# Altium footprint library GOSTInterface.PcbLib: 1 footprints
Each footprint in its own frame and in the unit in brackets; x right, y up, seen from the top. Pads: shape width x height; smd on the part's side, far side on the other; paste and mask are expansions set on the pad; w line width, h text height; cw(c..) or ccw(c..) is an arc to the next point about the centre after c.
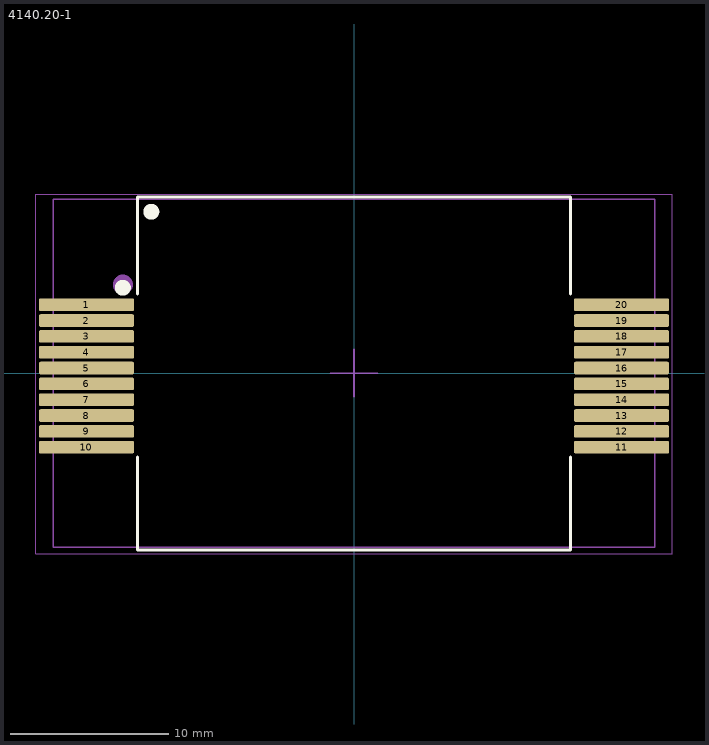
[diagram p0: the footprint, top view; thin cyan lines are the x and y axes]

## 4140.20-1 [mm] "20-???????? ??????????????????? ??????"
height 1.6
pads (20):
  rrect25% 6x0.8 smd paste-0.025 mask+0.1: 1(-16.9,4.325) 2(-16.9,3.325) 3(-16.9,2.325) 4(-16.9,1.325) 5(-16.9,0.325) 6(-16.9,-0.675) 7(-16.9,-1.675) 8(-16.9,-2.675) 9(-16.9,-3.675) 10(-16.9,-4.675) 11(16.9,-4.675) 12(16.9,-3.675) 13(16.9,-2.675) 14(16.9,-1.675) 15(16.9,-0.675) 16(16.9,0.325) 17(16.9,1.325) 18(16.9,2.325) 19(16.9,3.325) 20(16.9,4.325)
Top Overlay:
  circle w0.6: c-14.6,5.4 r0.2
  circle w0.6: c-12.8,10.2 r0.2
  lines w0.2: -13.675,-5.3 -13.675,-11.175 7.55,-11.175 13.675,-11.175 13.675,-5.3 ; -13.675,5 -13.675,11.125 -7.55,11.125 13.675,11.125 13.675,5
Mechanical 6:
  text ".Comment" at -1.251,2.736 h1.2
Mechanical 7:
  circle w1: c-14.6,5.6 r0.127
  lines w0.1: -19,-11 -19,4.9 -19,11 19,11 19,-11 -19,-11
Mechanical 9:
  text ".Designator" at -1.812,3.717 h1.5
Mechanical 15:
  lines w0.05: -20.1,-11.4 -20.1,11.3 20.1,11.3 20.1,-11.4 -20.1,-11.4
  lines w0.1: -1.5,0 1.5,0 ; 0,-1.5 0,1.5
3D body "4140.20-1.stp": height 7.32, standoff 0, extent -19,-11.025 19,10.975